# Altium footprint library Footprints.PcbLib: 111 footprints (part 4 of 7)
Each footprint in its own frame and in the unit in brackets; x right, y up, seen from the top. Pads: shape width x height; smd on the part's side, far side on the other; paste and mask are expansions set on the pad; w line width, h text height; cw(c..) or ccw(c..) is an arc to the next point about the centre after c.
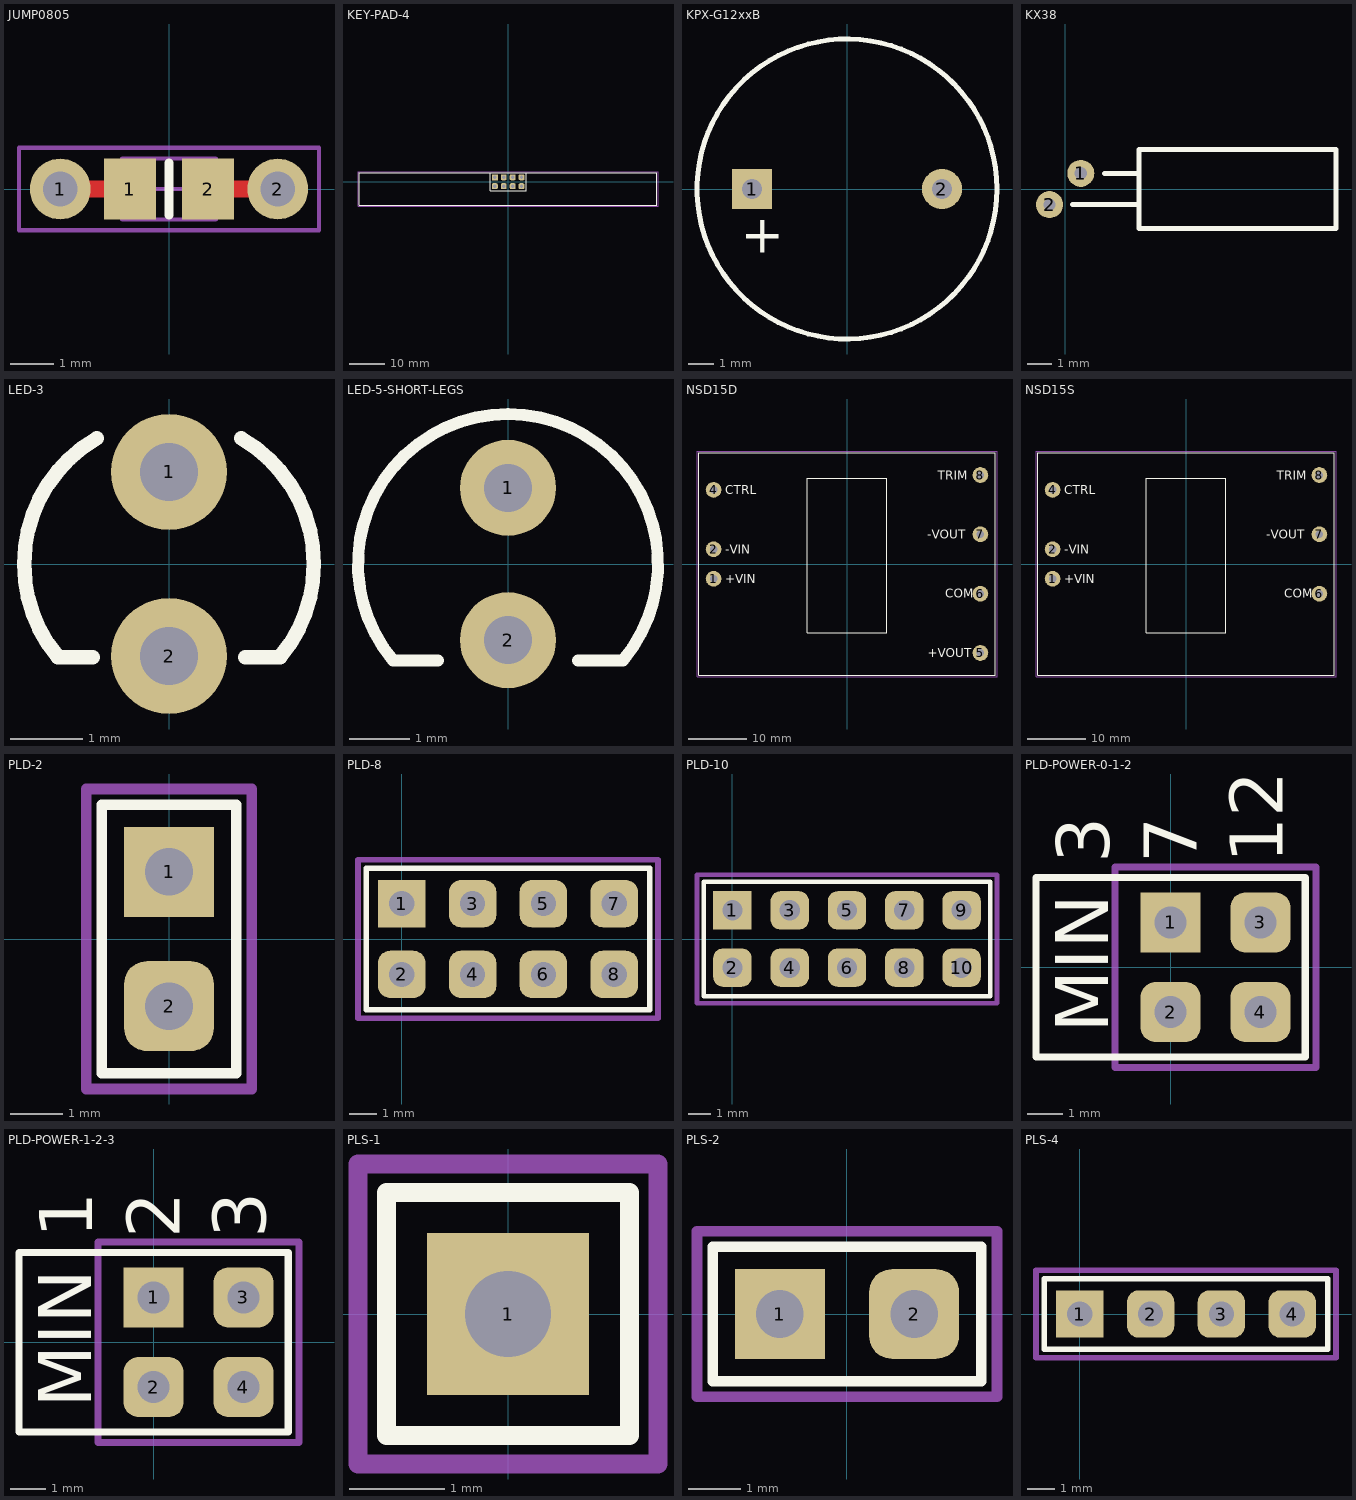
[diagram p3: the footprints below, top view; thin cyan lines are the x and y axes]

## JUMP0805 [mm] "Jumper, Body 5.0x1.3mm"
height 0.65
pads (4):
  round 1.4 hole 0.8: 1(-2.5,0) 2(2.5,0)
  rect 1.2x1.4 smd: 1(-0.9,0) 2(0.9,0)
Top Layer:
  lines w0.4: -1.85,0 -1.45,0 ; 1.45,0 1.85,0
Top Overlay:
  lines w0.2: 0,-0.6 0,0.6
Mechanical 1:
  lines w0.1: -1.075,-0.7 -1.075,0.7 1.075,0.7 1.075,-0.7 -1.075,-0.7
Mechanical 3:
  lines w0.1: -0.5,0 0.5,0 ; 0,-0.5 0,0.5 ; -3.45,-0.95 -3.45,0.95 3.45,0.95 3.45,-0.95 -3.45,-0.95
3D body: height 0.5, standoff 0, extent -2.5,-0.25 2.5,0.25
3D body: height 0.65, standoff 0, extent -1.075,-0.7 1.075,0.7

## KEY-PAD-4 [mm] "Key-pad; 4 keys"
height 16.34
pads (8):
  rect 1.7x1.7 hole 0.9: 1(-3.75,1.27)
  rrect50% 1.7x1.7 hole 0.9: 2(-3.75,-1.27) 3(-1.21,1.27) 4(-1.21,-1.27) 5(1.33,1.27) 6(1.33,-1.27) 7(3.87,1.27) 8(3.87,-1.27)
Top Overlay:
  lines w0.2: -5.02,2.54 -5.02,-2.54 5.14,-2.54 5.14,2.54 ; -42.4,-6.66 42.4,-6.66 42.4,2.54 -42.4,2.54 -42.4,-6.66
Mechanical 3:
  lines w0.2: -42.7,-6.96 -42.7,2.84 42.7,2.84 42.7,-6.96 -42.7,-6.96
3D body: height 2.54, standoff 0, extent -5.02,-2.57 5.14,2.54
3D body: height 4.14, standoff 2.54, extent -42.4,-6.66 42.4,2.54
3D body: height 8.38, standoff 4.14, extent -14.12,-5.16 -8.12,1.04
3D body: height 8.38, standoff 4.14, extent 8.12,-5.16 14.12,1.04
3D body: height 8.38, standoff 4.14, extent -36.36,-5.16 -30.36,1.04
3D body: height 8.38, standoff 4.14, extent 30.36,-5.16 36.36,1.04
3D body: height 16.34, standoff 8.38, extent -35.06,-3.753 -31.673,-0.36
3D body: height 16.34, standoff 8.38, extent -12.82,-3.753 -9.433,-0.36
3D body: height 16.34, standoff 8.38, extent 9.433,-3.753 12.82,-0.36
3D body: height 16.34, standoff 8.38, extent 31.673,-3.753 35.06,-0.36

## KPX-G12xxB [mm] "Magnetic buzzer – self drived"
height 7.5
pads (2):
  rect 1.6x1.6 hole 0.8: 1(-3.8,0)
  round 1.6 hole 0.8: 2(3.8,0)
Top Overlay:
  circle w0.2: c0,0 r6
  text "+" at -4.25,-2.55 h1.52
3D body: height 7.5, standoff 0, extent -6,-6 5.953,5.976

## KX38 [mm] "Crystal, Thru-Hole; 2 Leads; Body 3.0 x 8.0 mm (Dia.xH)"
height 8
pads (2):
  round 1.1 hole 0.5: 1(0.635,0.635) 2(-0.635,-0.635)
Top Overlay:
  lines w0.2: 0.3,-0.635 3,-0.635 ; 1.6,0.635 3,0.635 ; 3,-1.6 3,1.6 11,1.6 11,-1.6 3,-1.6
3D body: height 2.99, standoff 0, extent 3,-1.494 11,1.5

## LED-3 [mm] "Typical LED - 3mm; 2 Leads"
height 5.54
pads (2):
  round 1.6 hole 0.8: 1(0,1.27) 2(0,-1.27)
Top Overlay:
  lines w0.2: -1.532,-1.286 cw(c0,0) -1,1.732 ; -1.53,-1.29 -1.05,-1.29 ; 1,1.732 cw(c0,0) 1.532,-1.286 ; 1.05,-1.29 1.53,-1.29
3D body: height 5.5, standoff 0, extent -0.249,0.98 0.249,1.479
3D body: height 5.5, standoff 0, extent -0.248,-1.47 0.25,-0.97
3D body: height 9.5, standoff 5.5, extent -1.56,-1.477 1.428,1.517
3D body: height 11, standoff 8, extent -1.56,-1.477 1.424,1.51

## LED-5-SHORT-LEGS [mm] "Typical LED - 5mm; 2 short leads;"
height 8.6
pads (2):
  round 1.6 hole 0.8: 1(0,1.27) 2(0,-1.27)
Top Overlay:
  lines w0.2: -1.17,-1.607 -1.915,-1.607 cw(c0,0) 1.915,-1.607 1.17,-1.607
3D body: height 8.6, standoff 3.6, extent -2.55,-2.473 2.424,2.506
3D body: height 6.1, standoff 0, extent -2.552,-2.475 2.428,2.515
3D body: height 5.5, standoff 0, extent -0.248,-1.47 0.25,-0.97
3D body: height 5.5, standoff 0, extent -0.249,0.98 0.249,1.479

## NSD15D [mm] "15W DC-DC Regulated Dual Output"
height 9.82
pads (7):
  round 2.7 hole 1.3: 1(-22.86,-2.54) 2(-22.86,2.54) 4(-22.86,12.7) 5(22.86,-15.24) 6(22.86,-5.08) 7(22.86,5.08) 8(22.86,15.24)
Top Overlay:
  lines w0.2: -25.4,-19.05 -25.4,19.05 25.4,19.05 25.4,-19.05 -25.4,-19.05 ; -6.79,-11.8 -6.79,14.65 6.79,14.65 6.79,-11.8 -6.79,-11.8
  text "TRIM" at 15.57,14.44 h1.52
  text "-VOUT" at 13.73,4.31 h1.52
  text "+VOUT" at 13.8,-15.964 h1.52
  text "CTRL" at -20.9,11.95 h1.52
  text "+VIN" at -20.9,-3.27 h1.52
  text "-VIN" at -20.9,1.73 h1.52
  text "COM" at 16.8,-5.824 h1.52
Mechanical 3:
  lines w0.2: -25.7,-19.35 25.7,-19.35 25.7,19.35 -25.7,19.35 -25.7,-19.35
3D body: height 9.82, standoff 1.92, extent -25.4,-19.05 25.4,19.05
3D body: height 3.98, standoff 0, extent -6.79,-11.8 6.79,14.65
3D body: height 3.98, standoff 0, extent -23.756,1.642 -21.963,3.438
3D body: height 3.98, standoff 0, extent -23.756,-3.438 -21.964,-1.642
3D body: height 3.98, standoff 0, extent -23.756,11.802 -21.963,13.598
3D body: height 3.98, standoff 0, extent 21.964,4.182 23.756,5.978
3D body: height 3.98, standoff 0, extent 21.964,-5.978 23.756,-4.182
3D body: height 3.98, standoff 0, extent 21.964,-16.138 23.756,-14.342
3D body: height 3.98, standoff 0, extent 21.964,14.342 23.756,16.138

## NSD15S [mm] "15W DC-DC Regulated Single Output"
height 9.82
pads (6):
  round 2.7 hole 1.3: 1(-22.86,-2.54) 2(-22.86,2.54) 4(-22.86,12.7) 6(22.86,-5.08) 7(22.86,5.08) 8(22.86,15.24)
Top Overlay:
  lines w0.2: -25.4,-19.05 -25.4,19.05 25.4,19.05 25.4,-19.05 -25.4,-19.05 ; -6.79,-11.8 -6.79,14.65 6.79,14.65 6.79,-11.8 -6.79,-11.8
  text "TRIM" at 15.57,14.44 h1.52
  text "-VOUT" at 13.73,4.31 h1.52
  text "CTRL" at -20.9,11.95 h1.52
  text "+VIN" at -20.9,-3.27 h1.52
  text "-VIN" at -20.9,1.73 h1.52
  text "COM" at 16.8,-5.824 h1.52
Mechanical 3:
  lines w0.2: -25.7,-19.35 25.7,-19.35 25.7,19.35 -25.7,19.35 -25.7,-19.35
3D body: height 9.82, standoff 1.92, extent -25.4,-19.05 25.4,19.05
3D body: height 3.98, standoff 0, extent -6.79,-11.8 6.79,14.65
3D body: height 3.98, standoff 0, extent -23.756,1.642 -21.963,3.438
3D body: height 3.98, standoff 0, extent -23.756,-3.438 -21.964,-1.642
3D body: height 3.98, standoff 0, extent -23.756,11.802 -21.963,13.598
3D body: height 3.98, standoff 0, extent 21.964,4.182 23.756,5.978
3D body: height 3.98, standoff 0, extent 21.964,-5.978 23.756,-4.182
3D body: height 3.98, standoff 0, extent 21.964,14.342 23.756,16.138

## PLD-2 [mm] "PLD-2; Pitch 2.54"
height 8.54
pads (2):
  rect 1.7x1.7 hole 0.9: 1(0,1.27)
  rrect50% 1.7x1.7 hole 0.9: 2(0,-1.27)
Top Overlay:
  lines w0.2: -1.27,-2.54 1.27,-2.54 1.27,2.54 -1.27,2.54 -1.27,-2.54
Mechanical 3:
  lines w0.2: -1.57,-2.84 -1.57,2.84 1.57,2.84 1.57,-2.84 -1.57,-2.84
3D body: height 8.54, standoff -3, extent -0.319,-1.589 0.319,-0.951
3D body: height 8.54, standoff -3, extent -0.319,0.951 0.319,1.589
3D body: height 2.54, standoff 0, extent -1.27,-2.57 1.27,2.54

## PLD-8 [mm] "PLD-8; Pitch 2.54"
height 8.54
pads (8):
  rect 1.7x1.7 hole 0.9: 1(0,1.27)
  rrect50% 1.7x1.7 hole 0.9: 2(0,-1.27) 3(2.54,1.27) 4(2.54,-1.27) 5(5.08,1.27) 6(5.08,-1.27) 7(7.62,1.27) 8(7.62,-1.27)
Top Overlay:
  lines w0.2: -1.27,-2.54 8.89,-2.54 8.89,2.54 -1.27,2.54 -1.27,-2.54
Mechanical 3:
  lines w0.2: -1.57,-2.84 -1.57,2.84 9.19,2.84 9.19,-2.84 -1.57,-2.84
3D body: height 8.54, standoff -3, extent 7.301,0.951 7.939,1.589
3D body: height 8.54, standoff -3, extent 7.301,-1.589 7.939,-0.951
3D body: height 8.54, standoff -3, extent 4.761,0.951 5.399,1.589
3D body: height 8.54, standoff -3, extent 4.761,-1.589 5.399,-0.951
3D body: height 8.54, standoff -3, extent 2.221,0.951 2.859,1.589
3D body: height 8.54, standoff -3, extent 2.221,-1.589 2.859,-0.951
3D body: height 8.54, standoff -3, extent -0.319,-1.589 0.319,-0.951
3D body: height 8.54, standoff -3, extent -0.319,0.951 0.319,1.589
3D body: height 2.54, standoff 0, extent -1.27,-2.57 8.89,2.54

## PLD-10 [mm] "PLD-10; Pitch 2.54"
height 8.54
pads (10):
  rect 1.7x1.7 hole 0.9: 1(0,1.27)
  rrect50% 1.7x1.7 hole 0.9: 2(0,-1.27) 3(2.54,1.27) 4(2.54,-1.27) 5(5.08,1.27) 6(5.08,-1.27) 7(7.62,1.27) 8(7.62,-1.27) 9(10.16,1.27) 10(10.16,-1.27)
Top Overlay:
  lines w0.2: -1.27,-2.54 -1.27,2.54 11.43,2.54 11.43,-2.54 -1.27,-2.54
Mechanical 3:
  lines w0.2: -1.57,-2.84 11.73,-2.84 11.73,2.84 -1.57,2.84 -1.57,-2.84
3D body: height 8.54, standoff -3, extent 9.841,0.951 10.479,1.589
3D body: height 8.54, standoff -3, extent 9.841,-1.589 10.479,-0.951
3D body: height 2.54, standoff 0, extent -1.27,-2.57 11.43,2.54
3D body: height 8.54, standoff -3, extent -0.319,0.951 0.319,1.589
3D body: height 8.54, standoff -3, extent -0.319,-1.589 0.319,-0.951
3D body: height 8.54, standoff -3, extent 2.221,-1.589 2.859,-0.951
3D body: height 8.54, standoff -3, extent 2.221,0.951 2.859,1.589
3D body: height 8.54, standoff -3, extent 4.761,-1.589 5.399,-0.951
3D body: height 8.54, standoff -3, extent 4.761,0.951 5.399,1.589
3D body: height 8.54, standoff -3, extent 7.301,-1.589 7.939,-0.951
3D body: height 8.54, standoff -3, extent 7.301,0.951 7.939,1.589

## PLD-POWER-0-1-2 [mm] "PLD power switch 0-1-2"
height 8.54
pads (4):
  rect 1.7x1.7 hole 0.9: 1(0,1.27)
  rrect50% 1.7x1.7 hole 0.9: 2(0,-1.27) 3(2.54,1.27) 4(2.54,-1.27)
Top Overlay:
  lines w0.2: -3.81,-2.54 -3.81,2.54 3.81,2.54 3.81,-2.54 -3.81,-2.54
  text "3" at -1.74,2.94 h1.5
  text "7" at 0.74,2.94 h1.5
  text "12" at 3.18,2.94 h1.5
  text "MIN" at -1.76,-1.86 h1.5
Mechanical 3:
  lines w0.2: -1.57,-2.84 4.11,-2.84 4.11,2.84 -1.57,2.84 -1.57,-2.84
3D body: height 2.54, standoff 0, extent -1.27,-2.57 3.81,2.54
3D body: height 8.54, standoff -3, extent -0.319,0.951 0.319,1.589
3D body: height 8.54, standoff -3, extent -0.319,-1.589 0.319,-0.951
3D body: height 8.54, standoff -3, extent 2.221,-1.589 2.859,-0.951
3D body: height 8.54, standoff -3, extent 2.221,0.951 2.859,1.589

## PLD-POWER-1-2-3 [mm] "PLD power switch 1-2-3"
height 8.54
pads (4):
  rect 1.7x1.7 hole 0.9: 1(0,1.27)
  rrect50% 1.7x1.7 hole 0.9: 2(0,-1.27) 3(2.54,1.27) 4(2.54,-1.27)
Top Overlay:
  lines w0.2: -3.81,-2.54 -3.81,2.54 3.81,2.54 3.81,-2.54 -3.81,-2.54
  text "1" at -1.74,2.94 h1.5
  text "2" at 0.74,2.94 h1.5
  text "3" at 3.18,2.94 h1.5
  text "MIN" at -1.76,-1.86 h1.5
Mechanical 3:
  lines w0.2: -1.57,-2.84 4.11,-2.84 4.11,2.84 -1.57,2.84 -1.57,-2.84
3D body: height 2.54, standoff 0, extent -1.27,-2.57 3.81,2.54
3D body: height 8.54, standoff -3, extent -0.319,0.951 0.319,1.589
3D body: height 8.54, standoff -3, extent -0.319,-1.589 0.319,-0.951
3D body: height 8.54, standoff -3, extent 2.221,-1.589 2.859,-0.951
3D body: height 8.54, standoff -3, extent 2.221,0.951 2.859,1.589

## PLS-1 [mm] "PLS-1; Pitch 2.54"
height 8.54
pads (1):
  rect 1.7x1.7 hole 0.9: 1(0,0)
Top Overlay:
  lines w0.2: -1.27,-1.27 -1.27,1.27 1.27,1.27 1.27,-1.27 -1.27,-1.27
Mechanical 3:
  lines w0.2: -1.57,-1.57 -1.57,1.57 1.57,1.57 1.57,-1.57 -1.57,-1.57
3D body: height 8.54, standoff -3, extent -0.319,-0.319 0.319,0.319
3D body: height 2.54, standoff 0, extent -1.27,-1.27 1.27,1.27

## PLS-2 [mm] "PLS-2; Pitch 2.54"
height 8.54
pads (2):
  rect 1.7x1.7 hole 0.9: 1(-1.27,0)
  rrect50% 1.7x1.7 hole 0.9: 2(1.27,0)
Top Overlay:
  lines w0.2: -2.54,-1.27 2.54,-1.27 2.54,1.27 -2.54,1.27 -2.54,-1.27
Mechanical 3:
  lines w0.2: -2.84,-1.57 2.84,-1.57 2.84,1.57 -2.84,1.57 -2.84,-1.57
3D body: height 8.54, standoff -3, extent 0.951,-0.319 1.589,0.319
3D body: height 8.54, standoff -3, extent -1.589,-0.319 -0.951,0.319
3D body: height 2.54, standoff 0, extent -2.54,-1.27 2.57,1.27

## PLS-4 [mm] "PLS-4; Pitch 2.54"
height 8.54
pads (4):
  rect 1.7x1.7 hole 0.9: 1(0,0)
  rrect50% 1.7x1.7 hole 0.9: 2(2.54,0) 3(5.08,0) 4(7.62,0)
Top Overlay:
  lines w0.2: -1.27,-1.27 -1.27,1.27 8.89,1.27 8.89,-1.27 -1.27,-1.27
Mechanical 3:
  lines w0.2: -1.57,-1.57 -1.57,1.57 9.19,1.57 9.19,-1.57 -1.57,-1.57
3D body: height 8.54, standoff -3, extent 7.301,-0.319 7.939,0.319
3D body: height 8.54, standoff -3, extent 4.761,-0.319 5.399,0.319
3D body: height 8.54, standoff -3, extent 2.221,-0.319 2.859,0.319
3D body: height 8.54, standoff -3, extent -0.319,-0.319 0.319,0.319
3D body: height 2.54, standoff 0, extent -1.27,-1.27 8.89,1.27